# Altium footprint library Eurobot_lib.PcbLib: 52 footprints (part 1 of 4)
Each footprint in its own frame and in the unit in brackets; x right, y up, seen from the top. Pads: shape width x height; smd on the part's side, far side on the other; paste and mask are expansions set on the pad; w line width, h text height; cw(c..) or ccw(c..) is an arc to the next point about the centre after c.
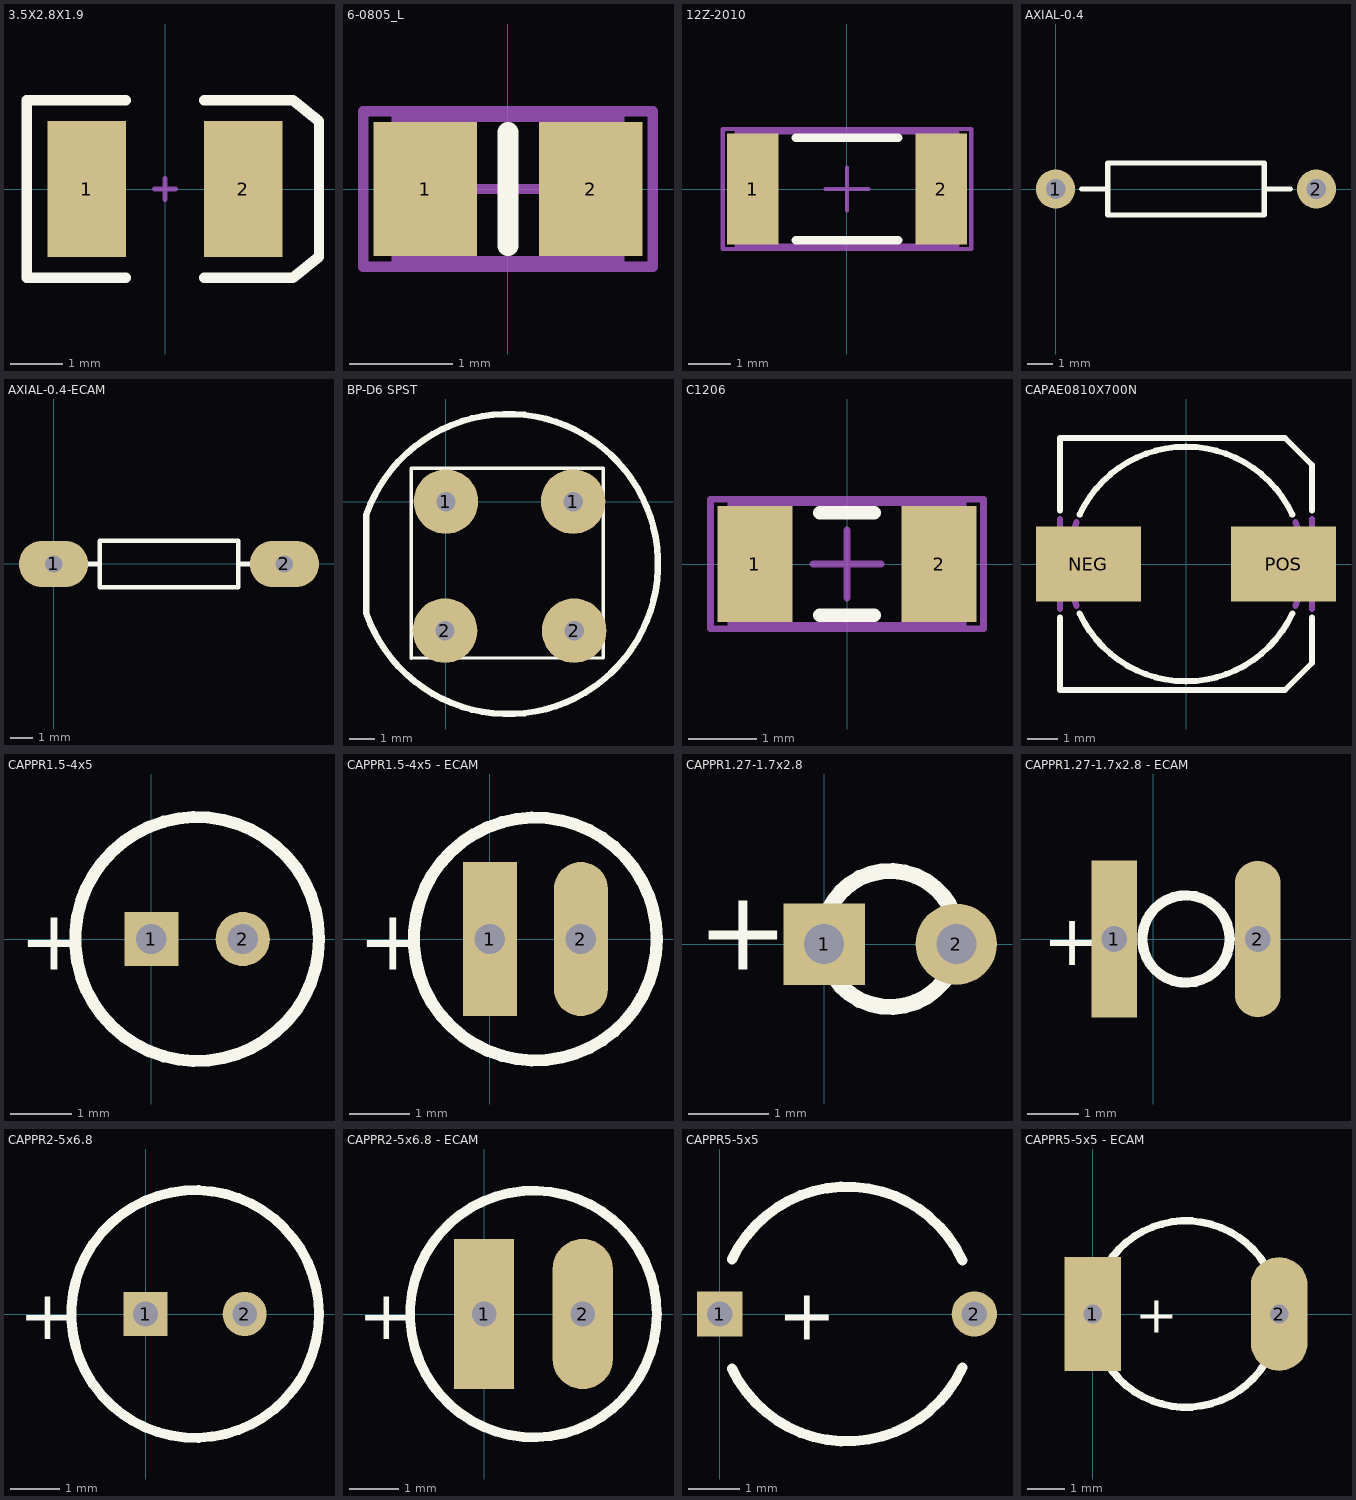
[diagram p0: the footprints below, top view; thin cyan lines are the x and y axes]

## 3.5X2.8X1.9 [mm] "SM LED; 2 C-Bend Leads; Body 3.5 x 2.8 x 1.9 mm, inc leads (LxWxH typ)"
height 1.9
pads (2):
  rect 1.5x2.6 smd: 1(-1.5,0) 2(1.5,0)
Top Overlay:
  lines w0.2: -0.75,-1.7 -2.65,-1.7 -2.65,1.7 -0.75,1.7 ; 0.75,-1.7 2.45,-1.7 2.95,-1.3 2.95,1.3 2.45,1.7 0.75,1.7
Mechanical 1:
  lines w0.1: -0.2,0 0.2,0 ; 0,-0.2 0,0.2

## 6-0805_L [mm] "Chip Resistor, Body 2.0x1.2mm, IPC High Density"
height 0.7
pads (2):
  rect 1x1.3 smd: 1(-0.8,0) 2(0.8,0)
Top Overlay:
  lines w0.2: 0,-0.55 0,0.55
Mechanical 13:
  lines w0.1: -1.075,-0.7 -1.075,0.7 1.075,0.7 1.075,-0.7 -1.075,-0.7
Mechanical 15:
  lines w0.1: -0.5,0 0.5,0 ; 0,-0.5 0,0.5 ; -1.4,-0.75 -1.4,0.75 1.4,0.75 1.4,-0.75 -1.4,-0.75
3D body: height 0.7, standoff 0, extent -1.075,-0.7 1.075,0.7

## 12Z-2010 [mm] "Chip Resistor, Body 5.0x2.5mm, IPC High Density"
height 0.9
pads (2):
  rect 1.2x2.6 smd: 1(-2.2,0) 2(2.2,0)
Top Overlay:
  lines w0.2: -1.2,-1.2 1.2,-1.2 ; -1.2,1.2 1.2,1.2
Mechanical 13:
  lines w0.1: -2.575,-1.325 2.575,-1.325 2.575,1.325 -2.575,1.325 -2.575,-1.325
Mechanical 15:
  lines w0.1: -0.5,0 0.5,0 ; 0,-0.5 0,0.5 ; -2.9,-1.4 2.9,-1.4 2.9,1.4 -2.9,1.4 -2.9,-1.4
3D body: height 0.9, standoff 0, extent -2.575,-1.325 2.575,1.325

## AXIAL-0.4 [mil] "Resistor; 2 Leads"
height 80
pads (2):
  round 60 hole 30: 1(0,0) 2(400,0)
Top Overlay:
  lines w7.87: 40,0 80,0 ; 320,0 360,0 ; 80,-40 320,-40 320,40 80,40 80,-40

## AXIAL-0.4-ECAM [mil] "Resistor; 2 Leads"
height 80
pads (2):
  oval 120x80 hole 30: 1(0,0) 2(400,0)
Top Overlay:
  lines w7.87: 40,0 80,0 ; 320,0 360,0 ; 80,-40 320,-40 320,40 80,40 80,-40

## BP-D6 SPST [mil] "SPST Momentary Key Switches"
height 452.76
pads (4):
  round 100 hole 30: 1(0,0) 1(197,0) 2(-1.5,-200) 2(198.5,-200)
Mid-Layer 1:
  lines w50: -1.5,-200 198.5,-200 ; 0,0 197,0
Top Overlay:
  lines w5: -53.66,-242.59 243.5,-242.35 243.58,51.7 -53.66,51.7 -53.66,-242.59
  lines w10: -123.58,-172.31 ccw(c96.1,-96.67) -123.58,-21.02 -123.58,-168.38

## C1206 [mm] "Chip Capacitor, Body 3.2x1.6mm, IPC High Density"
height 1.3
pads (2):
  rect 1.1x1.7 smd: 1(-1.35,0) 2(1.35,0)
Top Overlay:
  lines w0.2: -0.4,-0.75 0.4,-0.75 ; -0.4,0.75 0.4,0.75
Mechanical 13:
  lines w0.1: -1.7,-0.9 1.7,-0.9 1.7,0.9 -1.7,0.9 -1.7,-0.9
Mechanical 15:
  lines w0.1: -0.5,0 0.5,0 ; 0,-0.5 0,0.5 ; -2,-0.95 2,-0.95 2,0.95 -2,0.95 -2,-0.95
3D body: height 1.3, standoff 0, extent -1.7,-0.9 1.7,0.9

## CAPAE0810X700N [mm]
pads (2):
  rect 3.5x2.5 smd: NEG(-3.25,0) POS(3.25,0)
Top Overlay:
  lines w0.203: -4.2,-1.778 -4.2,-4.2 3.3,-4.2 4.2,-3.3 4.2,-1.778 ; -4.2,1.778 -4.2,4.2 3.3,4.2 4.2,3.3 4.2,1.778 ; -3.546,-1.646 ccw(c0,0) 3.546,-1.646 ; -3.543,1.652 cw(c0,0) 3.543,1.652
Mechanical 4:
  lines w0.203: -4.2,-1.5 -4.2,1.5 -4.2,-1.5 ; -3.65,-1.401 cw(c0,0) -3.65,1.401 ccw(c0,0) -3.65,-1.401 ; 3.65,-1.401 ccw(c0,0) 3.65,1.401 cw(c0,0) 3.65,-1.401 ; 4.2,-1.5 4.2,1.5 4.2,-1.5

## CAPPR1.5-4x5 [mil] "Capacitor, Electrolytic, Radial; Body 4 x 5 mm (Dia.xH typ); Pin Spacing 1.5 mm (typ)"
pads (2):
  rect 35x35 hole 19.68: 1(0,0)
  round 35 hole 19.68: 2(59.05,0)
Top Overlay:
  circle w7.87: c29.53,0 r78.74
  text "+" at -85.47,-20 h39.37

## CAPPR1.5-4x5 - ECAM [mm] "Capacitor, Electrolytic, Radial; Body 4 x 5 mm (Dia.xH typ); Pin Spacing 1.5 mm (typ)"
pads (2):
  rect 0.889x2.54 hole 0.5: 1(0,0)
  oval 0.889x2.54 hole 0.5: 2(1.5,0)
Top Overlay:
  circle w0.2: c0.75,0 r2
  text "+" at -2.171,-0.508 h1

## CAPPR1.27-1.7x2.8 [mil] "Capacitor, Radial, Tantalum; Body 1.7 x 2.8 mm (Dia.xH max); Pin Spacing 1.27 mm (typ)"
pads (2):
  rect 40x40 hole 19.68: 1(0,0)
  round 40 hole 19.68: 2(65,0)
Top Overlay:
  circle w7.87: c32.5,2.5 r33.46
  text "+" at -62.5,-12.5 h39.37

## CAPPR1.27-1.7x2.8 - ECAM [mil] "Capacitor, Radial, Tantalum; Body 1.7 x 2.8 mm (Dia.xH max); Pin Spacing 1.27 mm (typ)"
pads (2):
  rect 35x120 hole 19.68: 1(-30,0)
  oval 35x120 hole 19.68: 2(80,0)
Top Overlay:
  circle w7.87: c25,0 r33.46
  text "+" at -85,-20 h39.37

## CAPPR2-5x6.8 [mil] "Capacitor, Electrolytic, Radial; Body 5 x 6.8 mm (Dia.xH typ); Pin Spacing 2 mm (typ)"
pads (2):
  rect 35x35 hole 19.68: 1(0,0)
  round 35 hole 19.68: 2(78.74,0)
Top Overlay:
  circle w7.87: c39.37,0 r98.43
  text "+" at -100.63,-20 h39.37

## CAPPR2-5x6.8 - ECAM [mil] "Capacitor, Electrolytic, Radial; Body 5 x 6.8 mm (Dia.xH typ); Pin Spacing 2 mm (typ)"
pads (2):
  rect 48x120 hole 19.68: 1(0,0)
  oval 48x120 hole 19.68: 2(78.74,0)
Top Overlay:
  circle w7.87: c39.37,0 r98.43
  text "+" at -100.63,-20 h39.37

## CAPPR5-5x5 [mil] "Capacitor, Electrolytic, Radial; Body 5 x 5 mm (Dia.xH typ); Pin Spacing 5 mm (typ)"
pads (2):
  rect 35x35 hole 19.68: 1(0,0)
  round 35 hole 19.68: 2(196.85,0)
Top Overlay:
  lines w7.87: 9.56,-42.32 ccw(c98.43,0) 187.75,-41.33 ; 9.56,42.32 cw(c98.43,0) 187.75,41.33
  text "+" at 45,-20 h39.37

## CAPPR5-5x5 - ECAM [mil] "Capacitor, Electrolytic, Radial; Body 5 x 5 mm (Dia.xH typ); Pin Spacing 5 mm (typ)"
pads (2):
  rect 60x120 hole 19.68: 1(0,0)
  oval 60x120 hole 19.68: 2(196.85,0)
Top Overlay:
  lines w7.87: 9.56,-42.32 ccw(c98.43,0) 187.75,-41.33 ; 9.56,42.32 cw(c98.43,0) 187.75,41.33
  text "+" at 45,-20 h39.37